# EAGLE library part TLP627* (library Parts)
２回路入フォトカプラ TLP627-2 ・パッケージ：８ピンＤＩＰ ・ＩＣ：１５０ｍＡ ・変換効率：４０００％ ｔｙｐ． ・動作温度：－５５℃～１００℃ ・絶縁耐圧：５０００Ｖｒｍｓ ｍｉｎ．（＠６０ｓｅｃ）
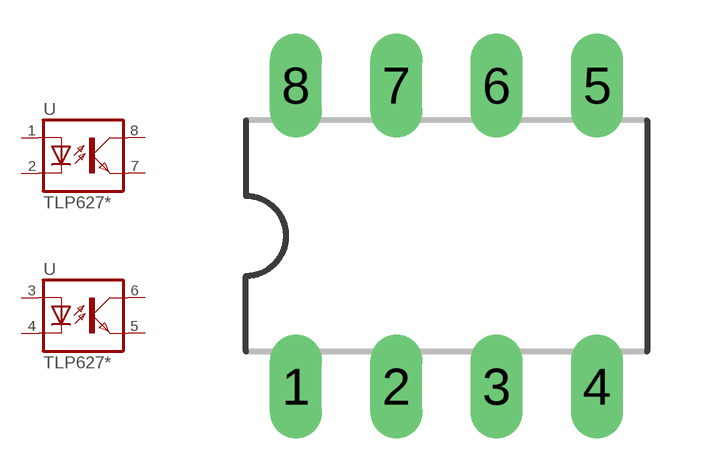
[diagram p4: symbol with the pads of DIL08; footprint DIL08]

Designator prefix U; gates G$1=OPT_COUPLER G$2=OPT_COUPLER

## TLP627-2  [DIL08]
1  G$1:A  pas
2  G$1:C  pas
3  G$2:A  pas
4  G$2:C  pas
5  G$2:EMIT  pas
6  G$2:COL  pas
7  G$1:EMIT  pas
8  G$1:COL  pas

## Footprint DIL08 (pad centres in mm)
Dual In Line Package
drill 0.813 long: 1 -3.81,-3.81; 2 -1.27,-3.81; 3 1.27,-3.81; 4 3.81,-3.81; 5 3.81,3.81; 6 1.27,3.81; 7 -1.27,3.81; 8 -3.81,3.81